# Altium schematic symbol library Header_D.SchLib: 1 symbol
Pins are listed as number, name and electrical type; pins without a type are passive.

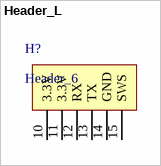
[diagram p0: symbol Header_L]

## Header_L
designator H?, comment Header_6
footprint D
pins: 10 3.3V, 11 3.3V, 12 RX, 13 TX, 14 GND, 15 SWS